# Altium footprint library jst-eh.PcbLib: 8 footprints
Each footprint in its own frame and in the unit in brackets; x right, y up, seen from the top. Pads: shape width x height; smd on the part's side, far side on the other; paste and mask are expansions set on the pad; w line width, h text height; cw(c..) or ccw(c..) is an arc to the next point about the centre after c.
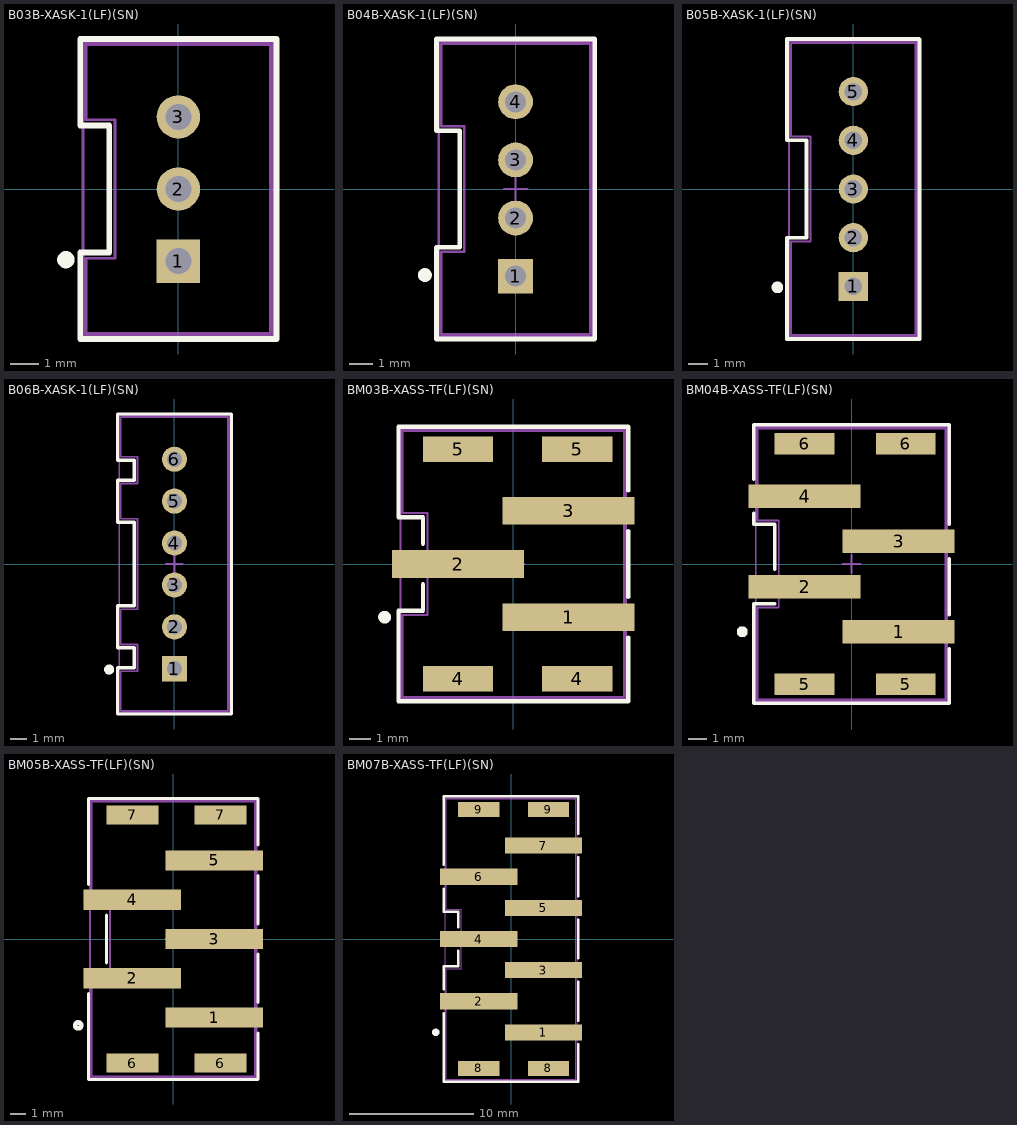
[diagram p0: the footprints below, top view; thin cyan lines are the x and y axes]

## B03B-XASK-1(LF)(SN) [mm] "3 pos, 2.5mm Wire to Board Connector"
height 4.7
pads (3):
  rect 1.5x1.5 hole 0.9: 1(0,-2.5)
  round 1.5 hole 0.9: 2(0,0) 3(0,2.5)
Top Overlay:
  circle w0.3: c-3.9,-2.45 r0.15
  lines w0.2: -3.4,-5.2 -3.4,-2.2 -2.4,-2.2 -2.4,2.2 -3.4,2.2 -3.4,5.2 3.4,5.2 3.4,-5.2 -3.4,-5.2
Mechanical 13:
  lines w0.1: -0.5,0 0.5,0 ; 0,-0.5 0,0.5 ; -3.2,-5 -3.2,-2.4 -2.2,-2.4 -2.2,2.4 -3.2,2.4 -3.2,5 3.2,5 3.2,-5 -3.2,-5
Mechanical 15:
  lines w0.1: -3.3,-5.1 3.3,-5.1 3.3,5.1 -3.3,5.1 -3.3,-5.1
  text ".Designator" at 1.875,-2.775 h0.8
3D body: height 8.8, standoff -3.4, extent -3.2,-5 3.2,5

## B04B-XASK-1(LF)(SN) [mm] "4 pos, 2.5mm Wire to Board Connector"
height 4.7
pads (4):
  rect 1.5x1.5 hole 0.9: 1(0,-3.75)
  round 1.5 hole 0.9: 2(0,-1.25) 3(0,1.25) 4(0,3.75)
Top Overlay:
  circle w0.3: c-3.9,-3.7 r0.15
  lines w0.2: -3.4,-6.45 -3.4,-2.5 -2.4,-2.5 -2.4,2.5 -3.4,2.5 -3.4,6.45 3.4,6.45 3.4,-6.45 -3.4,-6.45
Mechanical 13:
  lines w0.1: -0.5,0 0.5,0 ; 0,-0.5 0,0.5 ; -3.2,-6.25 -3.2,-2.7 -2.2,-2.7 -2.2,2.7 -3.2,2.7 -3.2,6.25 3.2,6.25 3.2,-6.25 -3.2,-6.25
Mechanical 15:
  lines w0.1: -3.3,-6.35 -3.3,6.35 3.3,6.35 3.3,-6.35 -3.3,-6.35
  text ".Designator" at 1.375,-1.875 h0.8
3D body: height 8.8, standoff -3.4, extent -3.2,-6.25 3.2,6.25

## B05B-XASK-1(LF)(SN) [mm] "5 pos, 2.5mm Wire to Board Connector"
height 4.7
pads (5):
  rect 1.5x1.5 hole 0.9: 1(0,-5)
  round 1.5 hole 0.9: 2(0,-2.5) 3(0,0) 4(0,2.5) 5(0,5)
Top Overlay:
  circle w0.3: c-3.9,-5.05 r0.15
  lines w0.2: -3.4,-7.7 3.4,-7.7 3.4,7.675 3.375,7.7 -3.4,7.7 -3.4,2.5 -2.4,2.5 -2.4,-2.5 -3.4,-2.5 -3.4,-7.7
Mechanical 13:
  lines w0.1: -0.5,0 0.5,0 ; 0,-0.5 0,0.5 ; -3.2,-7.5 3.2,-7.5 3.2,7.5 -3.2,7.5 -3.2,2.7 -2.2,2.7 -2.2,-2.7 -3.2,-2.7 -3.2,-7.5
Mechanical 15:
  lines w0.1: -3.3,-7.6 3.25,-7.6 3.3,-7.55 3.3,7.6 -3.3,7.6 -3.3,-7.575
  text ".Designator" at 1.3,-1.85 h0.8
3D body: height 8.8, standoff -3.4, extent -3.2,-7.5 3.2,7.5

## B06B-XASK-1(LF)(SN) [mm] "6 pos, 2.5mm Wire to Board Connector"
height 4.7
pads (6):
  rect 1.5x1.5 hole 0.9: 1(0,-6.25)
  round 1.5 hole 0.9: 2(0,-3.75) 3(0,-1.25) 4(0,1.25) 5(0,3.75) 6(0,6.25)
Top Overlay:
  circle w0.3: c-3.9,-6.3 r0.15
  lines w0.2: -3.4,-8.95 3.4,-8.95 3.4,8.95 -3.4,8.95 -3.4,6.2 -2.4,6.2 -2.4,5 -3.4,5 -3.4,2.5 -2.4,2.5 -2.4,-2.5 -3.4,-2.5 -3.4,-5 -2.4,-5 -2.4,-6.2 -3.4,-6.2 -3.4,-8.95
Mechanical 13:
  lines w0.1: -0.5,0 0.5,0 ; 0,-0.5 0,0.5 ; -3.2,-8.75 3.2,-8.75 3.2,8.75 -3.2,8.75 -3.2,6.4 -2.2,6.4 -2.2,4.8 -3.2,4.8 -3.2,2.7 -2.2,2.7 -2.2,-2.7 -3.2,-2.7 -3.2,-4.8 -2.2,-4.8 -2.2,-6.4 -3.2,-6.4 -3.2,-8.75
Mechanical 15:
  lines w0.1: -3.3,-8.85 3.25,-8.85 3.3,-8.8 3.3,8.85 -3.3,8.85 -3.3,-8.825
  text ".Designator" at 1.3,-3.1 h0.8
3D body: height 8.8, standoff -3.4, extent -3.2,-8.75 3.2,8.75

## BM03B-XASS-TF(LF)(SN) [mm] "3 pos, 2.5mm Wire to Board Connector"
height 4.7
pads (7):
  rect 6.2x1.3 smd: 1(2.6,-2.5) 2(-2.6,0) 3(2.6,2.5)
  rect 3.3x1.2 smd: 4(-2.6,-5.4) 4(3,-5.4) 5(-2.6,5.4) 5(3,5.4)
Top Overlay:
  circle w0.3: c-6.05,-2.5 r0.15
  lines w0.2: -4.25,-0.95 -4.25,-2.2 -5.4,-2.2 -5.4,-6.45 5.4,-6.45 5.4,-3.45 ; -4.25,0.95 -4.25,2.2 -5.4,2.2 -5.4,6.45 5.4,6.45 5.4,3.45 ; 5.4,-1.55 5.4,1.55
Mechanical 13:
  lines w0.1: -0.5,0 0.5,0 ; 0,-0.5 0,0.5 ; -5.2,-6.25 -5.2,-2.4 -4.025,-2.4 -4.025,2.4 -5.2,2.4 -5.2,6.25 5.2,6.25 5.2,-6.25 -5.2,-6.25
Mechanical 15:
  lines w0.1: -5.3,-6.35 5.3,-6.35 5.3,6.3 -5.3,6.3 -5.3,-6.35
  text ".Designator" at 1.875,-2.775 h0.8
3D body: height 9.4, standoff 0, extent -5.2,-6.25 5.2,6.25

## BM04B-XASS-TF(LF)(SN) [mm] "4 pos, 2.5mm Wire to Board Connector"
height 4.7
pads (8):
  rect 6.2x1.3 smd: 1(2.6,-3.75) 2(-2.6,-1.25) 3(2.6,1.25) 4(-2.6,3.75)
  rect 3.3x1.2 smd: 5(-2.6,-6.65) 5(3,-6.65) 6(-2.6,6.65) 6(3,6.65)
Top Overlay:
  circle w0.3: c-6.05,-3.75 r0.15
  lines w0.2: -5.4,-4.05 -5.4,-2.2 ; -5.4,2.8 -5.4,2.2 -4.25,2.2 -4.25,-0.3 ; -5.4,4.7 -5.4,7.675 ; -5.4,7.7 5.4,7.7 5.4,4.7 ; -4.25,-2.2 -5.4,-2.2 ; 5.4,-4.7 5.4,-7.7 -5.4,-7.7 -5.4,-2.2 ; 5.4,-2.8 5.4,0.3 ; 5.4,2.2 5.4,6.55
Mechanical 13:
  lines w0.1: -0.5,0 0.5,0 ; 0,-0.5 0,0.5 ; -5.2,-7.5 5.2,-7.5 5.2,7.5 -5.2,7.5 -5.2,2.4 -4.025,2.4 -4.025,-2.4 -5.2,-2.4 -5.2,-7.5
Mechanical 15:
  lines w0.1: -5.3,-7.6 -5.3,7.6 5.3,7.6 5.3,-7.6 -5.3,-7.6
  text ".Designator" at 1.875,-2.775 h0.8
3D body: height 9.4, standoff 0, extent -5.2,-7.5 5.2,7.5

## BM05B-XASS-TF(LF)(SN) [mm] "5 pos, 2.5mm Wire to Board Connector"
height 4.7
pads (9):
  rect 6.2x1.3 smd: 1(2.6,-5) 2(-2.6,-2.5) 3(2.6,0) 4(-2.6,2.5) 5(2.6,5)
  rect 3.3x1.2 smd: 6(-2.6,-7.9) 6(3,-7.9) 7(-2.6,7.9) 7(3,7.9)
Top Overlay:
  circle w0.3: c-6.05,-5.5 r0.19
  lines w0.2: -5.4,-3.475 -5.4,-8.95 5.4,-8.95 5.4,-5.975 ; -5.4,3.475 -5.4,8.95 5.4,8.95 5.4,5.975 ; -4.25,-1.525 -4.25,1.525 ; 5.4,-4.025 5.4,-0.975 ; 5.4,0.975 5.4,4.025
Mechanical 13:
  lines w0.1: -0.5,0 0.5,0 ; 0,-0.5 0,0.5 ; -5.2,-8.75 -5.2,-2.4 -4.025,-2.4 -4.025,2.4 -5.2,2.4 -5.2,8.75 5.2,8.75 5.2,-8.75 -5.2,-8.75
Mechanical 15:
  lines w0.1: -5.3,-8.85 5.3,-8.85 5.3,8.85 -5.3,8.85 -5.3,-8.85
  text ".Designator" at 1.875,-2.775 h0.8
3D body: height 9.4, standoff 0, extent -5.2,-8.75 5.2,8.75

## BM07B-XASS-TF(LF)(SN) [mm] "7 pos, 2.5mm Wire to Board Connector"
height 4.7
pads (11):
  rect 6.2x1.3 smd: 1(2.6,-7.5) 2(-2.6,-5) 3(2.6,-2.5) 4(-2.6,0) 5(2.6,2.5) 6(-2.6,5) 7(2.6,7.5)
  rect 3.3x1.2 smd: 8(-2.6,-10.4) 8(3,-10.4) 9(-2.6,10.4) 9(3,10.4)
Top Overlay:
  circle w0.3: c-6.05,-7.5 r0.15
  lines w0.2: -5.4,-5.95 -5.4,-11.45 5.4,-11.45 5.4,-8.45 ; -5.4,-4.05 -5.4,-2.2 -4.25,-2.2 -4.25,-0.95 ; -5.4,4.05 -5.4,2.2 -4.25,2.2 -4.25,0.95 ; -5.4,5.95 -5.4,11.45 5.4,11.45 5.4,8.45 ; 5.4,-6.55 5.4,-3.45 ; 5.4,-1.55 5.4,1.55 ; 5.4,3.45 5.4,6.55
Mechanical 13:
  lines w0.1: -0.5,0 0.5,0 ; 0,-0.5 0,0.5 ; -5.2,-11.25 5.2,-11.25 5.2,11.25 -5.2,11.25 -5.2,2.4 -4.025,2.4 -4.025,-2.4 -5.2,-2.4 -5.2,-11.25
Mechanical 15:
  lines w0.1: -5.3,-11.35 -5.3,11.35 5.3,11.35 5.3,-11.35 -5.3,-11.35
  text ".Designator" at 1.875,-2.775 h0.8
3D body: height 9.4, standoff 0, extent -5.2,-11.25 5.2,11.25